# Altium footprint library PCB_ADC.PcbLib: 16 footprints
Each footprint in its own frame and in the unit in brackets; x right, y up, seen from the top. Pads: shape width x height; smd on the part's side, far side on the other; paste and mask are expansions set on the pad; w line width, h text height; cw(c..) or ccw(c..) is an arc to the next point about the centre after c.
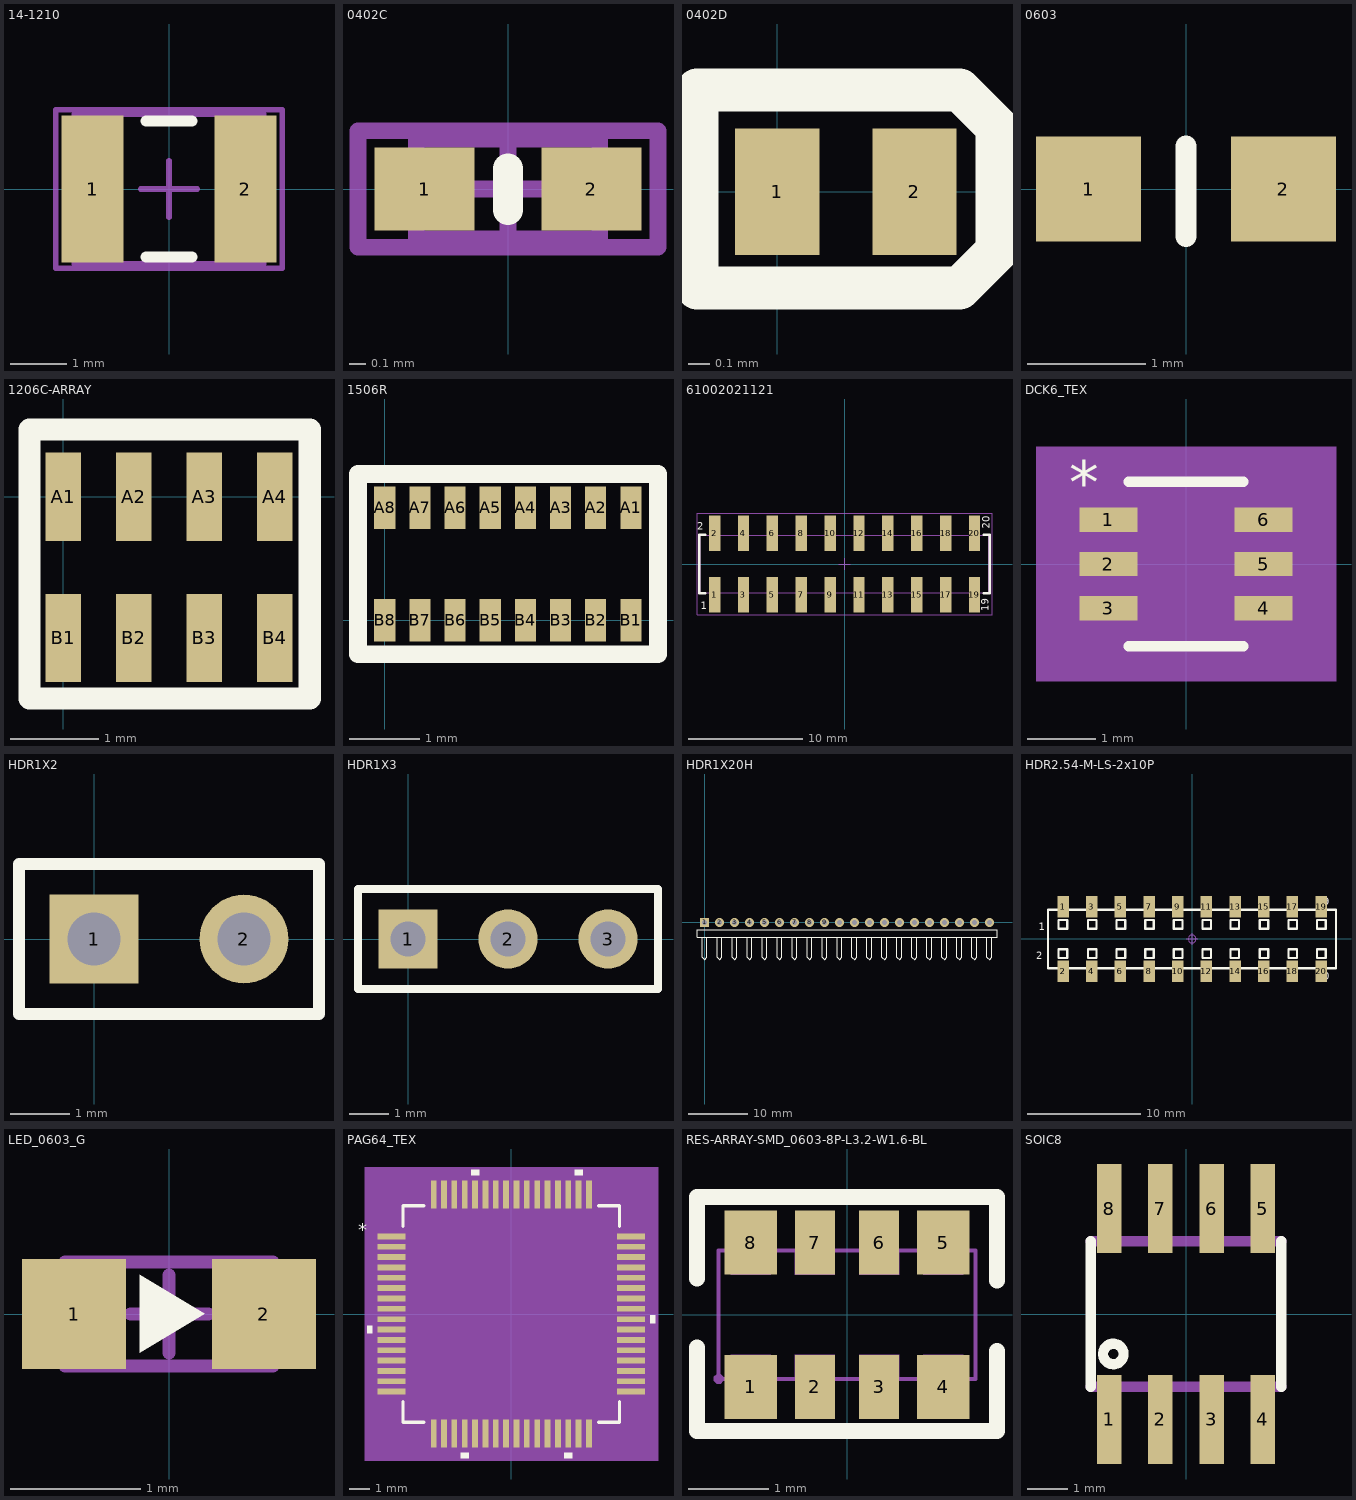
[diagram p0: the footprints below, top view; thin cyan lines are the x and y axes]

## 14-1210 [mm] "Chip Resistor, Body 3.2x2.5mm, IPC High Density"
height 0.9
pads (2):
  rect 1.1x2.6 smd: 1(-1.35,0) 2(1.35,0)
Top Overlay:
  lines w0.2: -0.4,-1.2 0.4,-1.2 ; -0.4,1.2 0.4,1.2
Mechanical 13:
  lines w0.1: -1.675,-1.32 -1.675,1.32 1.675,1.32 1.675,-1.32 -1.675,-1.32
Mechanical 15:
  lines w0.1: -0.5,0 0.5,0 ; 0,-0.5 0,0.5 ; -2,-1.4 -2,1.4 2,1.4 2,-1.4 -2,-1.4
3D body: height 0.9, standoff 0, extent -1.675,-1.32 1.675,1.32

## 0402C [mm] "Chip Inductor, Body 1.0x0.5mm, IPC High Density"
height 0.55
pads (2):
  rect 0.6x0.5 smd: 1(-0.5,0) 2(0.5,0)
Top Overlay:
  lines w0.18: 0,-0.127 0,0.123
Mechanical 13:
  lines w0.1: -0.55,-0.3 -0.55,0.3 0.55,0.3 0.55,-0.3 -0.55,-0.3
Mechanical 15:
  lines w0.1: -0.3,0 0.3,0 ; 0,-0.3 0,0.3 ; -0.9,-0.35 -0.9,0.35 0.9,0.35 0.9,-0.35 -0.9,-0.35
3D body "CAPC1005(0402).STEP": height 0.5, standoff 0, extent -0.5,-0.25 0.5,0.25

## 0402D [mm]
pads (2):
  rect 0.4x0.6 smd: 1(0,0) 2(0.65,0)
Top Overlay:
  lines w0.203: -0.381,-0.457 -0.381,0.483 0.864,0.483 1.041,0.305 1.041,-0.279 0.864,-0.457 -0.381,-0.457
3D body "DPY.STEP": height 0.46, standoff 0.01, extent -0.17,-0.295 0.83,0.305

## 0603 [mil] "Chip Inductor, Body 0.6x0.3mm, IPC High Density"
height 21.65
pads (2):
  rect 35x35 smd: 1(-32.5,0) 2(32.5,0)
Top Overlay:
  lines w7.09: 0.01,-15.74 0.01,14.26
3D body "R0603.STEP": height 17.72, standoff 0, extent -33.99,-15.74 29,15.75

## 1206C-ARRAY [mm]
pads (8):
  rect 0.4x1 smd: A1(0,0) A2(0.8,0) A3(1.6,0) A4(2.4,0) B1(0,-1.6) B2(0.8,-1.6) B3(1.6,-1.6) B4(2.4,-1.6)
Top Overlay:
  lines w0.254: -0.381,-2.286 -0.381,0.762 2.794,0.762 2.794,-2.286 -0.381,-2.286
3D body "User Library-ArrayCap1206.STEP": height 1.03, standoff 0.01, extent -0.33,-1.549 2.718,-0.025

## 1506R [mm]
pads (16):
  rect 0.3x0.6 smd: A1(3.5,1.6) A2(3,1.6) A3(2.5,1.6) A4(2,1.6) A5(1.5,1.6) A6(1,1.6) A7(0.5,1.6) A8(0,1.6) B1(3.5,0) B2(3,0) B3(2.5,0) B4(2,0) B5(1.5,0) B6(1,0) B7(0.5,0) B8(0,0)
Top Overlay:
  lines w0.254: -0.381,-0.483 -0.381,2.083 3.886,2.083 3.886,-0.483 -0.381,-0.483
3D body "RESISTOR ARRAY.STEP": height 0.46, standoff 0.01, extent -0.147,-0.013 3.653,1.587

## 61002021121 [mm] "Pin Header, pitch 2.54 mm, SMD, Vertical, dual row, 20p"
height 9.6
pads (20):
  rect 1x3.1 smd: 1(-11.43,-2.7) 2(-11.43,2.7) 3(-8.89,-2.7) 4(-8.89,2.7) 5(-6.35,-2.7) 6(-6.35,2.7) 7(-3.81,-2.7) 8(-3.81,2.7) 9(-1.27,-2.7) 10(-1.27,2.7) 11(1.27,-2.7) 12(1.27,2.7) 13(3.81,-2.7) 14(3.81,2.7) 15(6.35,-2.7) 16(6.35,2.7) 17(8.89,-2.7) 18(8.89,2.7) 19(11.43,-2.7) 20(11.43,2.7)
Top Overlay:
  lines w0.2: -12.225,-2.565 -12.775,-2.565 -12.775,2.565 -12.225,2.565 ; 12.225,-2.565 12.775,-2.565 12.775,2.565 12.225,2.565
  text "1" at -12.66,-4 h0.64
  text "2" at -12.96,3 h0.64
  text "19" at 12.7,-4.158 h0.64
  text "20" at 12.775,3.081 h0.64
Mechanical 13:
  lines w0.1: -11.75,-2.54 -11.75,-3.75 -11.11,-3.75 -11.11,-2.54 ; -11.75,2.54 -11.75,3.75 -11.11,3.75 -11.11,2.54 ; -9.21,-2.54 -9.21,-3.75 -8.57,-3.75 -8.57,-2.54 ; -9.21,2.54 -9.21,3.75 -8.57,3.75 -8.57,2.54 ; -6.67,-2.54 -6.67,-3.75 -6.03,-3.75 -6.03,-2.54 ; -6.67,2.54 -6.67,3.75 -6.03,3.75 -6.03,2.54 ; -4.13,-2.54 -4.13,-3.75 -3.49,-3.75 -3.49,-2.54 ; -4.13,2.54 -4.13,3.75 -3.49,3.75 -3.49,2.54 ; -1.59,-2.54 -1.59,-3.75 -0.95,-3.75 -0.95,-2.54 ; -1.59,2.54 -1.59,3.75 -0.95,3.75 -0.95,2.54 ; 0.95,-2.54 0.95,-3.75 1.59,-3.75 1.59,-2.54 ; 0.95,2.54 0.95,3.75 1.59,3.75 1.59,2.54 ; 3.49,-2.54 3.49,-3.75 4.13,-3.75 4.13,-2.54 ; 3.49,2.54 3.49,3.75 4.13,3.75 4.13,2.54 ; 6.03,-2.54 6.03,-3.75 6.67,-3.75 6.67,-2.54 ; 6.03,2.54 6.03,3.75 6.67,3.75 6.67,2.54 ; 8.57,-2.54 8.57,-3.75 9.21,-3.75 9.21,-2.54 ; 8.57,2.54 8.57,3.75 9.21,3.75 9.21,2.54 ; 11.11,-2.54 11.11,-3.75 11.75,-3.75 11.75,-2.54 ; 11.11,2.54 11.11,3.75 11.75,3.75 11.75,2.54 ; -12.7,-2.54 -12.7,2.54 12.7,2.54 12.7,-2.54 -12.7,-2.54
Mechanical 15:
  lines w0.05: -0.5,0 0.5,0 ; 0,-0.5 0,0.5 ; -12.975,-4.45 12.975,-4.45 12.975,4.45 -12.975,4.45 -12.975,-4.45
3D body "61002021121.stp": height 9.62, standoff 0.02, extent -12.7,-3.75 12.7,3.75

## DCK6_TEX [mil]
pads (6):
  rect 33.5x14 smd paste+0 mask+0: 1(-44.75,25.59) 2(-44.75,0) 3(-44.75,-25.59) 4(44.75,-25.59) 5(44.75,0) 6(44.75,25.59)
Top Overlay:
  lines w6: -33,-47.5 33,-47.5 ; -33,47.5 33,47.5
  text "*" at -67.25,34.59 h25
Mechanical 5:
  region: 86.5,-67.5 -86.5,-67.5 -86.5,67.5 86.5,67.5
Mechanical 13:
  lines w0: -12,42.5 ccw(c0,42.5) 12,42.5
  lines w1: -47.5,-31.59 -47.5,-19.59 -28,-19.59 -28,-31.59 -47.5,-31.59 ; -47.5,-6 -47.5,6 -28,6 -28,-6 -47.5,-6 ; -47.5,19.59 -47.5,31.59 -28,31.59 -28,19.59 -47.5,19.59 ; -28,-42.5 28,-42.5 28,42.5 -28,42.5 -28,-42.5 ; 28,-31.59 28,-19.59 47.5,-19.59 47.5,-31.59 28,-31.59 ; 28,-6 28,6 47.5,6 47.5,-6 28,-6 ; 28,19.59 28,31.59 47.5,31.59 47.5,19.59 28,19.59
  text "*" at -25.5,-10.5 h25
Mechanical 15:
  region: -38,-42.59 -71.5,-42.59 -71.5,42.59 -38,42.59 -38,52.5 38,52.5 38,42.59 71.5,42.59 71.5,-42.59 38,-42.59 38,-52.5 -38,-52.5
  lines w6: -71.5,-42.59 -71.5,42.59 -38,42.59 -38,52.5 38,52.5 38,42.59 71.5,42.59 71.5,-42.59 38,-42.59 38,-52.5 -38,-52.5 -38,-42.59 -71.5,-42.59
3D body "DCK6_TEX.step": height 43.11, standoff 0, extent -47.52,-42.52 47.52,42.52

## HDR1X2 [mm] "Connector; Header; 2 Position"
pads (2):
  rect 1.5x1.5 hole 0.9: 1(0,0)
  round 1.5 hole 0.9: 2(2.54,0)
Top Overlay:
  lines w0.2: -1.27,-1.27 -1.27,1.27 3.81,1.27 3.81,-1.27 -1.27,-1.27

## HDR1X3 [mm] "Connector; Header; 3 Position"
pads (3):
  rect 1.5x1.5 hole 0.9: 1(0,0)
  round 1.5 hole 0.9: 2(2.54,0) 3(5.08,0)
Top Overlay:
  lines w0.2: -1.27,-1.27 -1.27,1.27 6.35,1.27 6.35,-1.27 -1.27,-1.27

## HDR1X20H [mm] "Connector; Header; 20 Position; Right Angle"
pads (20):
  rect 1.5x1.5 hole 0.9: 1(0,0)
  round 1.5 hole 0.9: 2(2.54,0) 3(5.08,0) 4(7.62,0) 5(10.16,0) 6(12.7,0) 7(15.24,0) 8(17.78,0) 9(20.32,0) 10(22.86,0) 11(25.4,0) 12(27.94,0) 13(30.48,0) 14(33.02,0) 15(35.56,0) 16(38.1,0) 17(40.64,0) 18(43.18,0) 19(45.72,0) 20(48.26,0)
Top Overlay:
  lines w0.2: -0.423,-2.54 -0.423,-5.927 0,-6.35 0.423,-5.927 0.423,-2.54 ; 2.117,-2.54 2.117,-5.927 2.54,-6.35 2.963,-5.927 2.963,-2.54 ; 4.657,-2.54 4.657,-5.927 5.08,-6.35 5.503,-5.927 5.503,-2.54 ; 7.197,-2.54 7.197,-5.927 7.62,-6.35 8.043,-5.927 8.043,-2.54 ; 9.737,-2.54 9.737,-5.927 10.16,-6.35 10.583,-5.927 10.583,-2.54 ; 12.277,-2.54 12.277,-5.927 12.7,-6.35 13.123,-5.927 13.123,-2.54 ; 14.817,-2.54 14.817,-5.927 15.24,-6.35 15.663,-5.927 15.663,-2.54 ; 17.357,-2.54 17.357,-5.927 17.78,-6.35 18.203,-5.927 18.203,-2.54 ; 19.897,-2.54 19.897,-5.927 20.32,-6.35 20.743,-5.927 20.743,-2.54 ; 22.437,-2.54 22.437,-5.927 22.86,-6.35 23.283,-5.927 23.283,-2.54 ; 24.977,-2.54 24.977,-5.927 25.4,-6.35 25.823,-5.927 25.823,-2.54 ; 27.517,-2.54 27.517,-5.927 27.94,-6.35 28.363,-5.927 28.363,-2.54 ; 30.057,-2.54 30.057,-5.927 30.48,-6.35 30.903,-5.927 30.903,-2.54 ; 32.597,-2.54 32.597,-5.927 33.02,-6.35 33.443,-5.927 33.443,-2.54 ; 35.137,-2.54 35.137,-5.927 35.56,-6.35 35.983,-5.927 35.983,-2.54 ; 37.677,-2.54 37.677,-5.927 38.1,-6.35 38.523,-5.927 38.523,-2.54 ; 40.217,-2.54 40.217,-5.927 40.64,-6.35 41.063,-5.927 41.063,-2.54 ; 42.757,-2.54 42.757,-5.927 43.18,-6.35 43.603,-5.927 43.603,-2.54 ; 45.297,-2.54 45.297,-5.927 45.72,-6.35 46.143,-5.927 46.143,-2.54 ; 47.837,-2.54 47.837,-5.927 48.26,-6.35 48.683,-5.927 48.683,-2.54 ; -1.27,-2.54 -1.27,-1.27 0.635,-1.27 49.53,-1.27 49.53,-2.54 -1.27,-2.54

## HDR2.54-M-LS-2x10P [mm] "脚距：2.54mm，贴片双排母"
pads (20):
  rect 1.02x1.9 smd: 1(-11.43,2.85) 2(-11.43,-2.85) 3(-8.89,2.85) 4(-8.89,-2.85) 5(-6.35,2.85) 6(-6.35,-2.85) 7(-3.81,2.85) 8(-3.81,-2.85) 9(-1.27,2.85) 10(-1.27,-2.85) 11(1.27,2.85) 12(1.27,-2.85) 13(3.81,2.85) 14(3.81,-2.85) 15(6.35,2.85) 16(6.35,-2.85) 17(8.89,2.85) 18(8.89,-2.85) 19(11.43,2.85) 20(11.43,-2.85)
Top Overlay:
  lines w0.2: -12.77,-2.6 12.76,-2.6 12.76,2.6 -12.77,2.6 -12.77,-2.6 ; -11.841,-1.681 -11.841,-0.919 -11.079,-0.919 -11.079,-1.681 -11.841,-1.681 ; -11.841,0.919 -11.841,1.681 -11.079,1.681 -11.079,0.919 -11.841,0.919 ; -9.241,-1.681 -9.241,-0.919 -8.479,-0.919 -8.479,-1.681 -9.241,-1.681 ; -9.241,0.919 -9.241,1.681 -8.479,1.681 -8.479,0.919 -9.241,0.919 ; -6.701,-1.681 -5.939,-1.681 -5.939,-0.919 -6.701,-0.919 -6.701,-1.681 ; -6.701,0.919 -5.939,0.919 -5.939,1.681 -6.701,1.681 -6.701,0.919 ; -4.161,-1.681 -4.161,-0.919 -3.399,-0.919 -3.399,-1.681 -4.161,-1.681 ; -4.161,0.919 -4.161,1.681 -3.399,1.681 -3.399,0.919 -4.161,0.919 ; -1.621,-1.681 -1.621,-0.919 -0.859,-0.919 -0.859,-1.681 -1.621,-1.681 ; -1.621,0.919 -1.621,1.681 -0.859,1.681 -0.859,0.919 -1.621,0.919 ; 0.919,-1.681 0.919,-0.919 1.681,-0.919 1.681,-1.681 0.919,-1.681 ; 0.919,0.919 0.919,1.681 1.681,1.681 1.681,0.919 0.919,0.919 ; 3.399,-1.681 4.161,-1.681 4.161,-0.919 3.399,-0.919 3.399,-1.681 ; 3.399,0.919 4.161,0.919 4.161,1.681 3.399,1.681 3.399,0.919 ; 5.999,-1.681 6.761,-1.681 6.761,-0.919 5.999,-0.919 5.999,-1.681 ; 5.999,0.919 6.761,0.919 6.761,1.681 5.999,1.681 5.999,0.919 ; 8.539,-1.681 8.539,-0.919 9.301,-0.919 9.301,-1.681 8.539,-1.681 ; 8.539,0.919 8.539,1.681 9.301,1.681 9.301,0.919 8.539,0.919 ; 11.079,-1.681 11.841,-1.681 11.841,-0.919 11.079,-0.919 11.079,-1.681 ; 11.079,0.919 11.841,0.919 11.841,1.681 11.079,1.681 11.079,0.919
  text "20" at 11.049,-3.627 h0.64
  text "19" at 11.049,2.977 h0.64
  text "1" at -13.589,0.762 h0.64
  text "2" at -13.843,-1.778 h0.64
Mechanical 15:
  circle w0.05: c0,0 r0.35
  lines w0.05: -0.5,0 0.5,0 ; 0,-0.5 0,0.5
3D body "HDR2.54 2x1P_M.STEP": height 5.15, standoff 0, extent -7.65,-3.2 -5.05,3.2
3D body "HDR2.54 2x1P_M.STEP": height 5.15, standoff 0, extent -10.19,-3.2 -7.59,3.2
3D body "HDR2.54 2x1P_M.STEP": height 5.15, standoff 0, extent -12.73,-3.2 -10.13,3.2
3D body "HDR2.54 2x1P_M.STEP": height 5.15, standoff 0, extent -5.11,-3.2 -2.51,3.2
3D body "HDR2.54 2x1P_M.STEP": height 5.15, standoff 0, extent -2.57,-3.2 0.03,3.2
3D body "HDR2.54 2x1P_M.STEP": height 5.15, standoff 0, extent -0.03,-3.2 2.57,3.2
3D body "HDR2.54 2x1P_M.STEP": height 5.15, standoff 0, extent 2.51,-3.2 5.11,3.2
3D body "HDR2.54 2x1P_M.STEP": height 5.15, standoff 0, extent 5.05,-3.2 7.65,3.2
3D body "HDR2.54 2x1P_M.STEP": height 5.15, standoff 0, extent 7.59,-3.2 10.19,3.2
3D body "HDR2.54 2x1P_M.STEP": height 5.15, standoff 0, extent 10.13,-3.2 12.73,3.2

## LED_0603_G [mm]
pads (2):
  rect 0.8x0.85 smd: 1(-0.73,0) 2(0.73,0)
Top Overlay:
  region: 0.275,0.002 -0.225,-0.298 -0.225,0.302
Mechanical 15:
  lines w0.1: -0.297,0 0.303,0 ; 0,-0.3 0,0.3 ; -0.8,-0.4 -0.8,0.4 0.8,0.4 0.8,-0.4 -0.8,-0.4
3D body "LED0603(G).STEP": height 0.6, standoff 0, extent -0.81,-0.4 0.81,0.4

## PAG64_TEX [mil]
pads (64):
  rect 53x11 smd paste+0 mask+0: 1(-227.5,147.64) 2(-227.5,127.95) 3(-227.5,108.27) 4(-227.5,88.58) 5(-227.5,68.9) 6(-227.5,49.21) 7(-227.5,29.53) 8(-227.5,9.84) 9(-227.5,-9.84) 10(-227.5,-29.53) 11(-227.5,-49.21) 12(-227.5,-68.9) 13(-227.5,-88.58) 14(-227.5,-108.27) 15(-227.5,-127.95) 16(-227.5,-147.64) 33(227.5,-147.64) 34(227.5,-127.95) 35(227.5,-108.27) 36(227.5,-88.58) 37(227.5,-68.9) 38(227.5,-49.21) 39(227.5,-29.53) 40(227.5,-9.84) 41(227.5,9.84) 42(227.5,29.53) 43(227.5,49.21) 44(227.5,68.9) 45(227.5,88.58) 46(227.5,108.27) 47(227.5,127.95) 48(227.5,147.64)
  rect 11x53 smd paste+0 mask+0: 17(-147.64,-227.5) 18(-127.95,-227.5) 19(-108.27,-227.5) 20(-88.58,-227.5) 21(-68.9,-227.5) 22(-49.21,-227.5) 23(-29.53,-227.5) 24(-9.84,-227.5) 25(9.84,-227.5) 26(29.53,-227.5) 27(49.21,-227.5) 28(68.9,-227.5) 29(88.58,-227.5) 30(108.27,-227.5) 31(127.95,-227.5) 32(147.64,-227.5) 49(147.64,227.5) 50(127.95,227.5) 51(108.27,227.5) 52(88.58,227.5) 53(68.9,227.5) 54(49.21,227.5) 55(29.53,227.5) 56(9.84,227.5) 57(-9.84,227.5) 58(-29.53,227.5) 59(-49.21,227.5) 60(-68.9,227.5) 61(-88.58,227.5) 62(-108.27,227.5) 63(-127.95,227.5) 64(-147.64,227.5)
Top Overlay:
  region: -264,-22.03 -274,-22.03 -274,-37.03 -264,-37.03
  region: -81.08,-264 -96.08,-264 -96.08,-274 -81.08,-274
  region: 115.77,-264 100.77,-264 100.77,-274 115.77,-274
  region: 264,-2.34 274,-2.34 274,-17.34 264,-17.34
  region: 135.45,264 120.45,264 120.45,274 135.45,274
  region: -61.4,264 -76.4,264 -76.4,274 -61.4,274
  lines w6: -206,-166.24 -206,-206 -166.24,-206 ; -206,166.24 -206,206 -166.24,206 ; 166.24,-206 206,-206 206,-166.24 ; 166.24,206 206,206 206,166.24
  text "*" at -291.5,147.48 h25
Mechanical 5:
  region: 279,-279 -279,-279 -279,279 279,279
Mechanical 13:
  drawing of 261 lines, arcs and shapes, not listed
  text "*" at -198.5,132.48 h25
Mechanical 15:
  region: -163.14,-211 -211,-211 -211,-163.14 -264,-163.14 -264,163.14 -211,163.14 -211,211 -163.14,211 -163.14,264 163.14,264 163.14,211 211,211 211,163.14 264,163.14 264,-163.14 211,-163.14 211,-211 163.14,-211 163.14,-264 -163.14,-264
  lines w6: -264,-163.14 -211,-163.14 -211,-211 -163.14,-211 -163.14,-264 163.14,-264 163.14,-211 211,-211 211,-163.14 264,-163.14 264,163.14 211,163.14 211,211 163.14,211 163.14,264 -163.14,264 -163.14,211 -211,211 -211,163.14 -264,163.14 -264,-163.14
3D body "PAG64_TEX.step": height 47.09, standoff 0, extent -240,-240 240,240

## RES-ARRAY-SMD_0603-8P-L3.2-W1.6-BL [mm]
pads (8):
  rect 0.65x0.8 smd: 1(-1.2,-0.9) 4(1.2,-0.9) 5(1.2,0.9) 8(-1.2,0.9)
  rect 0.5x0.8 smd: 2(-0.4,-0.9) 3(0.4,-0.9) 6(0.4,0.9) 7(-0.4,0.9)
Top Overlay:
  lines w0.2: -1.87,-0.41 -1.87,-1.45 1.87,-1.45 1.87,-0.45 ; -1.87,0.45 -1.87,1.47 1.87,1.47 1.87,0.43
Mechanical 15:
  region: 0.95,0.5 0.95,0.8 1.45,0.8 1.45,0.5
  region: -0.65,0.5 -0.65,0.8 -0.15,0.8 -0.15,0.5
  region: 0.95,-0.8 0.95,-0.5 1.45,-0.5 1.45,-0.8
  region: 0.15,0.5 0.15,0.8 0.65,0.8 0.65,0.5
  region: 0.15,-0.8 0.15,-0.5 0.65,-0.5 0.65,-0.8
  region: -0.65,-0.8 -0.65,-0.5 -0.15,-0.5 -0.15,-0.8
  region: -1.45,0.5 -1.45,0.8 -0.95,0.8 -0.95,0.5
  region: -1.45,-0.8 -1.45,-0.5 -0.95,-0.5 -0.95,-0.8
  region: -1.54,-0.8 -1.54,-0.775 -1.575,-0.74 -1.625,-0.74 -1.66,-0.775 -1.66,-0.8 -1.66,-0.825 -1.625,-0.86 -1.575,-0.86 -1.54,-0.825 -1.54,-0.8
  lines w0.051: -1.6,-0.8 1.6,-0.8 1.6,0.8 -1.6,0.8 -1.6,-0.8

## SOIC8 [mil]
pads (8):
  rect 24x87 smd: 1(-75,-103) 2(-25,-103) 3(25,-103) 4(75,-103) 5(75,103) 6(25,103) 7(-25,103) 8(-75,103)
Top Overlay:
  circle w10: c-71,-39 r10
  lines w10: -93,-71 -93,71 ; 93,-71 93,71
Mechanical 15:
  lines w10: -93,-71 93,-71 ; -93,71 93,71